# Altium footprint library Tank.PcbLib: 288 footprints (part 17 of 18)
Each footprint in its own frame and in the unit in brackets; x right, y up, seen from the top. Pads: shape width x height; smd on the part's side, far side on the other; paste and mask are expansions set on the pad; w line width, h text height; cw(c..) or ccw(c..) is an arc to the next point about the centre after c.
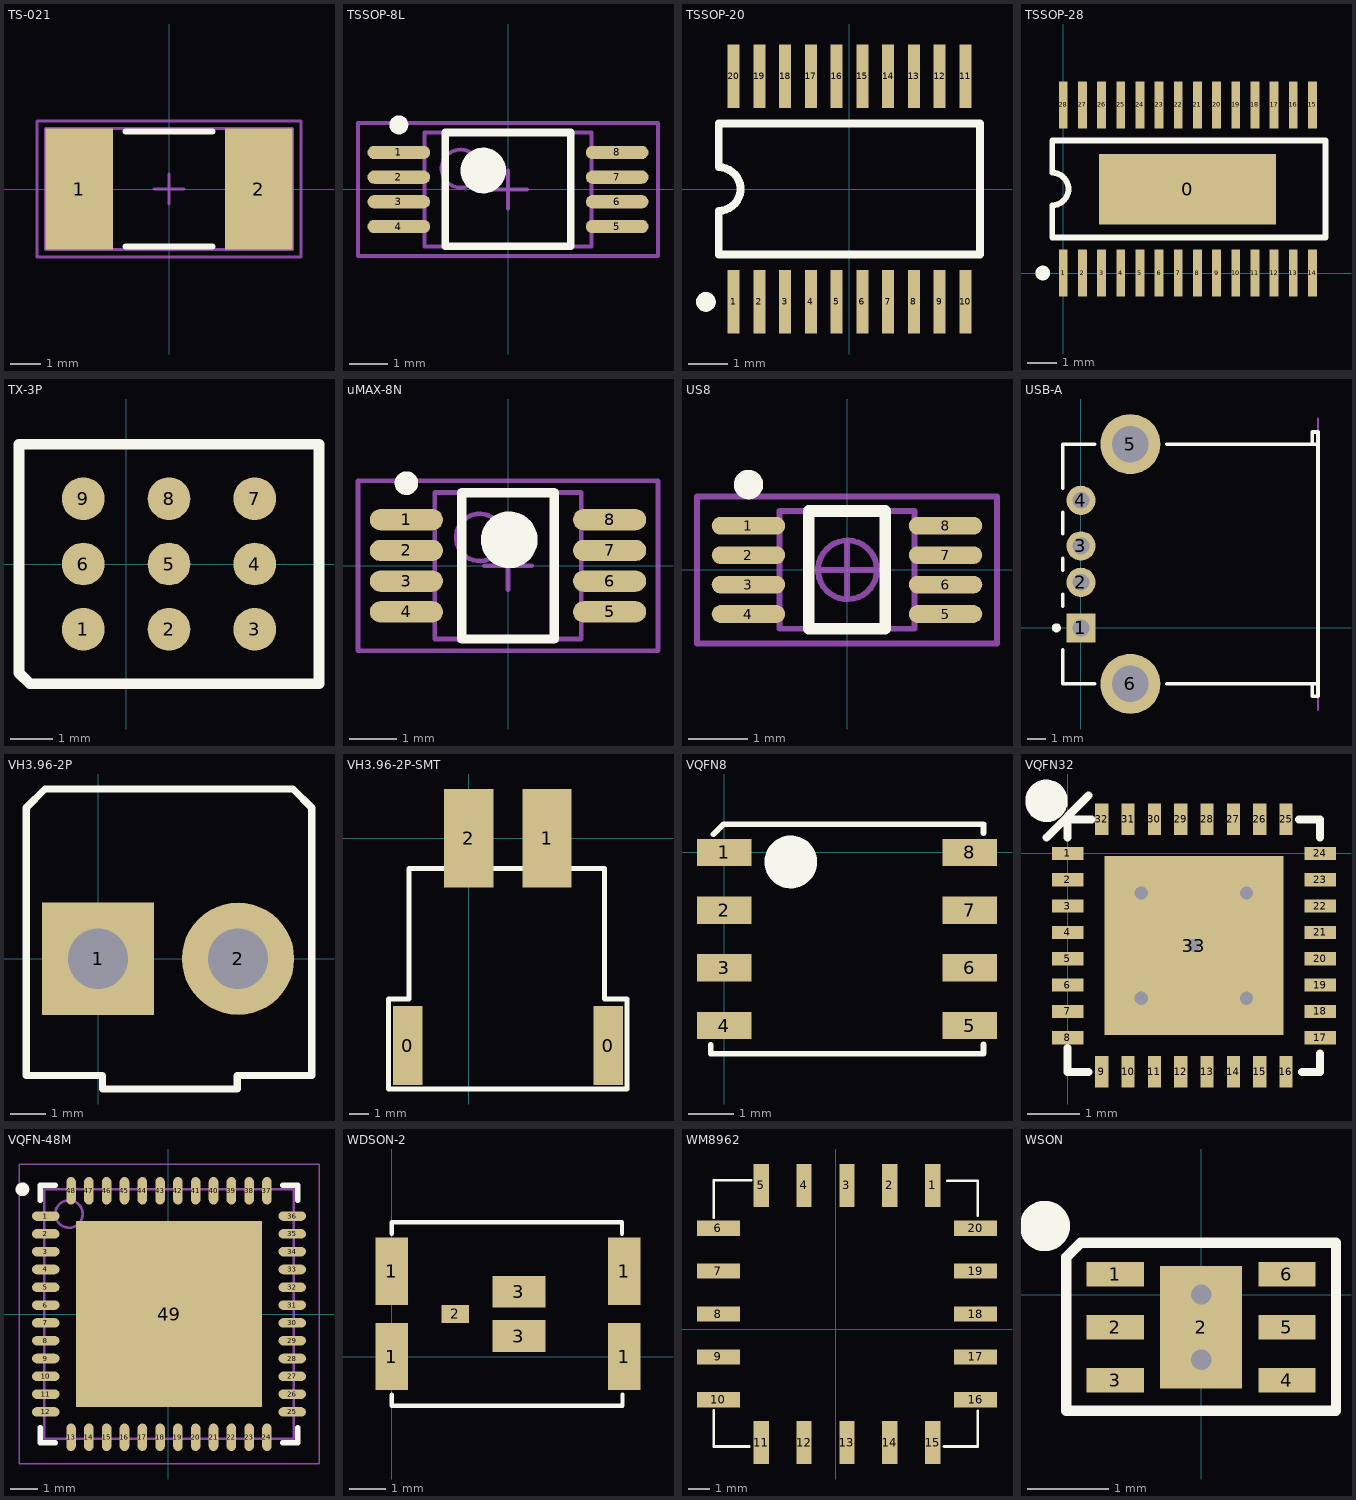
[diagram p16: the footprints below, top view; thin cyan lines are the x and y axes]

## TS-021 [mm]
height 2.9
pads (2):
  rect 2.25x4 smd: 1(-2.975,0) 2(2.975,0)
Top Overlay:
  lines w0.2: -1.45,-1.9 1.45,-1.9 ; -1.45,1.9 1.45,1.9
Mechanical 13:
  lines w0.1: -4.1,-2 -4.1,2 4.1,2 4.1,-2 -4.1,-2
Mechanical 15:
  lines w0.1: -0.5,0 0.5,0 ; 0,-0.5 0,0.5 ; -4.375,-2.25 -4.375,2.25 4.375,2.25 4.375,-2.25 -4.375,-2.25
3D body: height 2.9, standoff 0, extent -4.1,-2 4.1,2

## TSSOP-8L [mm]
height 0.8
pads (8):
  oval 1.65x0.35 smd: 1(-2.875,0.975) 2(-2.875,0.325) 3(-2.875,-0.325) 4(-2.875,-0.975) 5(2.875,-0.975) 6(2.875,-0.325) 7(2.875,0.325) 8(2.875,0.975)
Top Overlay:
  circle w0.6: c-0.65,0.5 r0.3
  circle w0.25: c-2.875,1.7 r0.125
  lines w0.2: -1.65,-1.5 1.65,-1.5 1.65,1.5 -1.65,1.5 -1.65,-1.5
Mechanical 13:
  circle w0.1: c-1.25,0.55 r0.5
  lines w0.1: -2.2,-1.5 2.2,-1.5 2.2,1.5 -2.2,1.5 -2.2,-1.5
Mechanical 15:
  lines w0.1: -0.5,0 0.5,0 ; 0,-0.5 0,0.5 ; -3.95,-1.75 3.95,-1.75 3.95,1.75 -3.95,1.75 -3.95,-1.75
3D body: height 0.8, standoff 0.19, extent -2.2,-1.5 2.2,1.5

## TSSOP-20 [mm]
pads (20):
  rect 0.3x1.6 smd: 1(-2.925,-2.85) 2(-2.275,-2.85) 3(-1.625,-2.85) 4(-0.975,-2.85) 5(-0.325,-2.85) 6(0.325,-2.85) 7(0.975,-2.85) 8(1.625,-2.85) 9(2.275,-2.85) 10(2.925,-2.85) 11(2.925,2.85) 12(2.275,2.85) 13(1.625,2.85) 14(0.975,2.85) 15(0.325,2.85) 16(-0.325,2.85) 17(-0.975,2.85) 18(-1.625,2.85) 19(-2.275,2.85) 20(-2.925,2.85)
Top Overlay:
  circle w0.25: c-3.625,-2.85 r0.125
  lines w0.2: -3.3,-1.65 -3.3,-0.55 ccw(c-3.3,0) -3.3,0.55 -3.3,1.65 3.3,1.65 3.3,-1.65 -3.3,-1.65

## TSSOP-28 [mm]
pads (29):
  rect 6x2.4 smd: 0(4.216,2.845)
  rect 0.3x1.6 smd: 1(0,0) 2(0.65,0) 3(1.3,0) 4(1.95,0) 5(2.6,0) 6(3.25,0) 7(3.9,0) 8(4.55,0) 9(5.2,0) 10(5.85,0) 11(6.5,0) 12(7.15,0) 13(7.8,0) 14(8.45,0) 15(8.45,5.7) 16(7.8,5.7) 17(7.15,5.7) 18(6.5,5.7) 19(5.85,5.7) 20(5.2,5.7) 21(4.55,5.7) 22(3.9,5.7) 23(3.25,5.7) 24(2.6,5.7) 25(1.95,5.7) 26(1.3,5.7) 27(0.65,5.7) 28(0,5.7)
Top Overlay:
  circle w0.25: c-0.7,0 r0.125
  lines w0.2: -0.375,1.2 8.89,1.2 8.89,4.5 -0.375,4.5 -0.375,3.4 cw(c-0.375,2.85) -0.375,2.3 -0.375,1.2

## TX-3P [mm]
pads (9):
  round 1 smd: 1(-1,-1.524) 2(1,-1.524) 3(3,-1.524) 4(3,0) 5(1,0) 6(-1,0) 7(3,1.524) 8(1,1.524) 9(-1,1.524)
Top Overlay:
  lines w0.254: -2.5,-2.54 -2.246,-2.794 4.5,-2.794 4.5,2.54 4.5,2.794 -2.5,2.794 -2.5,2.54 -2.5,-2.54

## uMAX-8N [mm] "TSOP, 8-Leads, Body 3.1x3.1mm (max), Pitch 0.65mm, IPC Medium Density"
height 1.1
pads (8):
  oval 1.55x0.45 smd: 1(-2.15,0.975) 2(-2.15,0.325) 3(-2.15,-0.325) 4(-2.15,-0.975) 5(2.15,-0.975) 6(2.15,-0.325) 7(2.15,0.325) 8(2.15,0.975)
Top Overlay:
  circle w0.6: c0.025,0.55 r0.3
  circle w0.25: c-2.15,1.75 r0.125
  lines w0.2: -0.975,-1.55 0.975,-1.55 0.975,1.55 -0.975,1.55 -0.975,-1.55
Mechanical 13:
  circle w0.1: c-0.6,0.6 r0.5
  lines w0.1: -1.55,-1.55 1.55,-1.55 1.55,1.55 -1.55,1.55 -1.55,-1.55
Mechanical 15:
  lines w0.1: -0.5,0 0.5,0 ; 0,-0.5 0,0.5 ; -3.175,-1.8 3.175,-1.8 3.175,1.8 -3.175,1.8 -3.175,-1.8
3D body: height 1.1, standoff 0.15, extent -1.55,-1.55 1.55,1.55

## US8 [mm]
height 0.8
pads (8):
  oval 1.25x0.3 smd: 1(-1.675,0.75) 2(-1.675,0.25) 3(-1.675,-0.25) 4(-1.675,-0.75) 5(1.675,-0.75) 6(1.675,-0.25) 7(1.675,0.25) 8(1.675,0.75)
Top Overlay:
  circle w0.25: c-1.675,1.45 r0.125
  lines w0.2: -0.65,-1 0.65,-1 0.65,1 -0.65,1 -0.65,-1
Mechanical 13:
  circle w0.1: c0.008,0 r0.5
  lines w0.1: -1.15,-1 1.15,-1 1.15,1 -1.15,1 -1.15,-1
Mechanical 15:
  lines w0.1: -0.5,0 0.5,0 ; 0,-0.5 0,0.5 ; -2.55,-1.25 2.55,-1.25 2.55,1.25 -2.55,1.25 -2.55,-1.25
3D body: height 0.8, standoff 0.19, extent -1.15,-1 1.15,1

## USB-A [mm]
pads (6):
  rect 1.6x1.6 hole 0.92: 1(0,0)
  round 1.6 hole 0.92: 2(0,2.5) 3(0,4.5) 4(0,7)
  round 3.3 hole 2: 5(2.71,10.084) 6(2.71,-3.073)
Top Overlay:
  circle w0.25: c-1.35,0 r0.125
  lines w0.2: -1,-1.2 -1,-3.065 0.762,-3.065 ; -1,1.2 -1,1.83 ; -1,3.17 -1,3.83 ; -1,5.17 -1,6.33 ; -1,7.67 -1,10.065 0.762,10.065 ; 4.699,-3.065 13,-3.065 ; 4.699,10.065 13,10.065 ; 12.68,-3.065 12.68,-3.75 13,-3.75 13,-3.065 ; 12.68,10.065 12.68,10.75 13,10.75 13,10.065 ; 13,-3.065 13,10.065
Mechanical 1:
  lines w0.1: 13,-4.5 13,11.5
  text "PCB Edge" at 12.664,-2.803 h0.25

## VH3.96-2P [mil]
pads (2):
  rect 125x125 hole 67: 1(0,0)
  round 125 hole 67: 2(155.91,0)
Top Overlay:
  lines w7.87: -80,-130 5,-130 5,-145 145,-145 155,-145 155,-130 238,-130
  lines w8: -80,-130 -80,168 -59.02,188.98 217.02,188.98 238,168 238,-130

## VH3.96-2P-SMT [mm]
pads (4):
  rect 1.5x4 smd: 0(-3.1,-10.5) 0(7.06,-10.5)
  rect 2.5x5 smd: 1(3.96,0) 2(0,0)
Top Overlay:
  lines w0.254: 5.842,-12.7 8.001,-12.7 8.001,-8.128 6.858,-8.128 6.858,-1.524 -3.048,-1.524 -3.048,-8.128 -4.064,-8.128 -4.064,-12.7 -2.413,-12.7 6.096,-12.7

## VQFN8 [mm]
pads (8):
  rect 1.2x0.6 smd: 1(0,0) 2(0,-1.27) 3(0,-2.54) 4(0,-3.81) 5(5.4,-3.81) 6(5.4,-2.54) 7(5.4,-1.27) 8(5.4,0)
Top Overlay:
  circle w0.6: c1.463,-0.21 r0.281
  lines w0.127: -0.3,-4.233 -0.3,-4.43 5.7,-4.43 ; -0.239,0.4 -0.019,0.62 5.705,0.62 5.705,0.425 ; 5.705,-4.426 5.705,-4.223

## VQFN32 [mm]
pads (33):
  rect 0.6x0.25 smd: 1(0,0) 2(0,-0.5) 3(0,-1) 4(0,-1.5) 5(0,-2) 6(0,-2.5) 7(0,-3) 8(0,-3.5) 17(4.8,-3.5) 18(4.8,-3) 19(4.8,-2.5) 20(4.8,-2) 21(4.8,-1.5) 22(4.8,-1) 23(4.8,-0.5) 24(4.8,0)
  rect 0.25x0.6 smd: 9(0.65,-4.15) 10(1.15,-4.15) 11(1.65,-4.15) 12(2.15,-4.15) 13(2.65,-4.15) 14(3.15,-4.15) 15(3.65,-4.15) 16(4.15,-4.15) 25(4.15,0.65) 26(3.65,0.65) 27(3.15,0.65) 28(2.65,0.65) 29(2.15,0.65) 30(1.65,0.65) 31(1.15,0.65) 32(0.65,0.65)
  rect 3.4x3.4 smd: 33(2.4,-1.75)
via 2.4,-1.75 diameter 0.5 hole 0.25
via 1.4,-0.75 diameter 0.5 hole 0.25
via 3.4,-0.75 diameter 0.5 hole 0.25
via 1.4,-2.75 diameter 0.5 hole 0.25
via 3.4,-2.75 diameter 0.5 hole 0.25
Top Overlay:
  circle w0.406: c-0.4,1 r0.2
  lines w0.152: -0.4,0.3 0.4,1.1 ; 0,-3.7 0,-4.15 0.4,-4.15 ; 0,0.3 0,0.65 0.45,0.65 ; 4.4,0.65 4.8,0.65 4.8,0.3 ; 4.45,-4.15 4.8,-4.15 4.8,-3.8

## VQFN-48M [mm]
pads (49):
  oval 1x0.35 smd: 1(-4.475,3.575) 2(-4.475,2.925) 3(-4.475,2.275) 4(-4.475,1.625) 5(-4.475,0.975) 6(-4.475,0.325) 7(-4.475,-0.325) 8(-4.475,-0.975) 9(-4.475,-1.625) 10(-4.475,-2.275) 11(-4.475,-2.925) 12(-4.475,-3.575) 25(4.525,-3.575) 26(4.525,-2.925) 27(4.525,-2.275) 28(4.525,-1.625) 29(4.525,-0.975) 30(4.525,-0.325) 31(4.525,0.325) 32(4.525,0.975) 33(4.525,1.625) 34(4.525,2.275) 35(4.525,2.925) 36(4.525,3.575)
  oval 0.35x1 smd: 13(-3.55,-4.5) 14(-2.9,-4.5) 15(-2.25,-4.5) 16(-1.6,-4.5) 17(-0.95,-4.5) 18(-0.3,-4.5) 19(0.35,-4.5) 20(1,-4.5) 21(1.65,-4.5) 22(2.3,-4.5) 23(2.95,-4.5) 24(3.6,-4.5) 37(3.6,4.5) 38(2.95,4.5) 39(2.3,4.5) 40(1.65,4.5) 41(1,4.5) 42(0.35,4.5) 43(-0.3,4.5) 44(-0.95,4.5) 45(-1.6,4.5) 46(-2.25,4.5) 47(-2.9,4.5) 48(-3.55,4.5)
  rect 6.8x6.8 smd: 49(0.025,0)
Top Overlay:
  circle w0.25: c-5.325,4.55 r0.125
  lines w0.2: -4.675,-4.15 -4.675,-4.7 -4.125,-4.7 ; -4.675,4.15 -4.675,4.7 -4.125,4.7 ; 4.175,-4.7 4.725,-4.7 4.725,-4.15 ; 4.175,4.7 4.725,4.7 4.725,4.15
Mechanical 13:
  circle w0.1: c-3.625,3.65 r0.5
  lines w0.1: -4.525,-4.55 4.575,-4.55 4.575,4.55 -4.525,4.55 -4.525,-4.55
Mechanical 15:
  lines w0.05: -5.45,-5.475 5.5,-5.475 5.5,5.475 -5.45,5.475 -5.45,-5.475
  lines w0.1: -0.475,0 0.525,0 ; 0.025,-0.5 0.025,0.5
3D body: height 0.9, standoff 0, extent -4.525,-4.55 4.575,4.55

## WDSON-2 [mm]
pads (7):
  rect 0.9x1.85 smd: 1(0,0) 1(0,2.35) 1(6.4,0) 1(6.4,2.35)
  rect 0.75x0.5 smd: 2(1.75,1.175)
  rect 1.45x0.87 smd: 3(3.5,0.565) 3(3.5,1.785)
Top Overlay:
  lines w0.12: 0,-1.046 0,-1.353 6.35,-1.353 6.35,-1.042 ; 0,3.383 0,3.697 6.336,3.697 6.336,3.379

## WM8962 [mm]
pads (20):
  rect 0.71x2 smd: 1(4.528,6.718) 2(2.528,6.718) 3(0.528,6.718) 4(-1.472,6.718) 5(-3.472,6.718) 11(-3.472,-5.282) 12(-1.472,-5.282) 13(0.528,-5.282) 14(2.528,-5.282) 15(4.528,-5.282)
  rect 2x0.71 smd: 6(-5.472,4.718) 7(-5.472,2.718) 8(-5.472,0.718) 9(-5.472,-1.282) 10(-5.472,-3.282) 16(6.528,-3.282) 17(6.528,-1.282) 18(6.528,0.718) 19(6.528,2.718) 20(6.528,4.718)
Top Overlay:
  lines w0.127: -5.69,-3.785 -5.69,-5.461 -4.039,-5.461 ; -5.69,5.207 -5.69,6.96 -3.937,6.96 ; 5.055,-5.461 6.629,-5.461 6.629,-3.81 ; 5.207,6.934 6.629,6.934 6.629,5.309

## WSON [mm]
pads (7):
  rect 0.7x0.3 smd: 1(-1.05,0.25) 2(-1.05,-0.4) 3(-1.05,-1.05) 4(1.05,-1.05) 5(1.05,-0.4) 6(1.05,0.25)
  rect 1x1.5 smd: 2(0,-0.4)
via 0,0 diameter 0.25 hole 0.25
via 0,-0.8 diameter 0.25 hole 0.25
Top Overlay:
  circle w0.4: c-1.911,0.838 r0.108
  lines w0.127: -1.651,-1.422 -1.651,0.457 -1.473,0.635 1.651,0.635 1.651,-1.422 -1.651,-1.422